# Altium schematic symbol library RT0402BRD0715KL.SchLib: 2 symbols
Pins are listed as number, name and electrical type; pins without a type are passive.

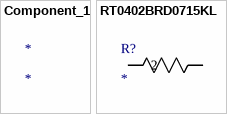
[diagram p0: symbols Component_1 to RT0402BRD0715KL]

## Component_1
designator *

## RT0402BRD0715KL
designator R?
No Description Available; Mfr_Name: Yageo
footprint RC0402N_YAG
pins: 1, 2